# Altium footprint library PCB - CAPACITOR - FILM - B32778Z0406K000.PCBLIB: 1 footprints
Each footprint in its own frame and in the unit in brackets; x right, y up, seen from the top. Pads: shape width x height; smd on the part's side, far side on the other; paste and mask are expansions set on the pad; w line width, h text height; cw(c..) or ccw(c..) is an arc to the next point about the centre after c.
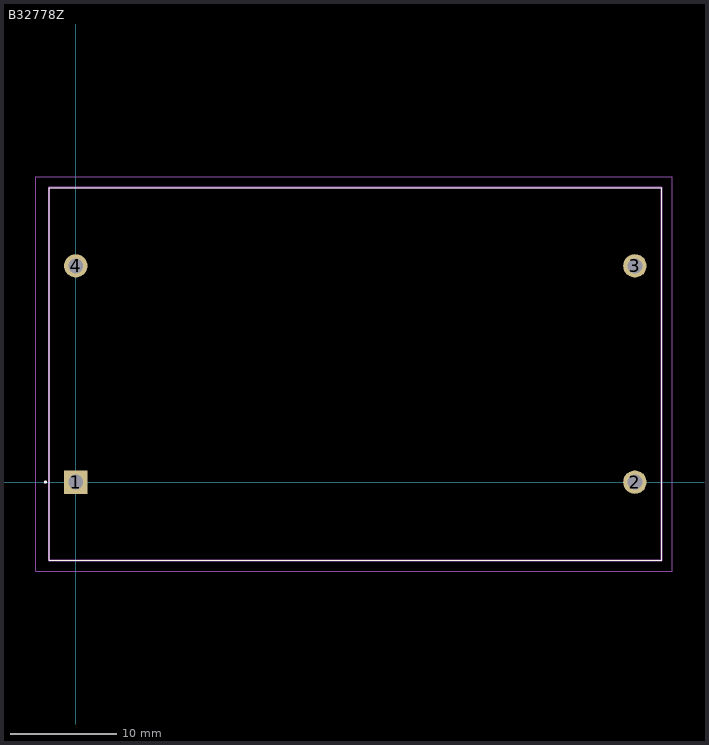
[diagram p0: the footprint, top view; thin cyan lines are the x and y axes]

## B32778Z [mm]
pads (4):
  rect 2.2x2.2 hole 1.4: 1(0,0)
  round 2.2 hole 1.4: 2(52.5,0) 3(52.5,20.3) 4(0,20.3)
Top Overlay:
  circle w0.2: c-2.85,0 r0.05
  lines w0.1: -2.5,-7.35 55,-7.35 55,27.65 -2.5,27.65 -2.5,-7.35
Top Assembly:
  lines w0.2: -2.5,-7.35 55,-7.35 55,27.65 -2.5,27.65 -2.5,-7.35
Mechanical 15:
  lines w0.05: -3.75,-8.35 56,-8.35 56,28.65 -3.75,28.65 -3.75,-8.35
3D body "B32778Z0406K000.stp": height 50.47, standoff -4.53, extent -2.62,-7.35 54.88,27.65